# Altium schematic symbol library pressure_sensors.SchLib: 1 symbol
Pins are listed as number, name and electrical type; pins without a type are passive.

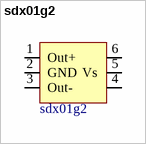
[diagram p0: symbol sdx01g2]

## sdx01g2
designator sdx01g2  (value not drawn)
footprint sdx01g2
pins: 1 Out+, 2 GND, 3 Out-, 4 (oc), 5 Vs, 6 (oc)